# Altium footprint library PcbLib.PcbLib: 6 footprints
Each footprint in its own frame and in the unit in brackets; x right, y up, seen from the top. Pads: shape width x height; smd on the part's side, far side on the other; paste and mask are expansions set on the pad; w line width, h text height; cw(c..) or ccw(c..) is an arc to the next point about the centre after c.
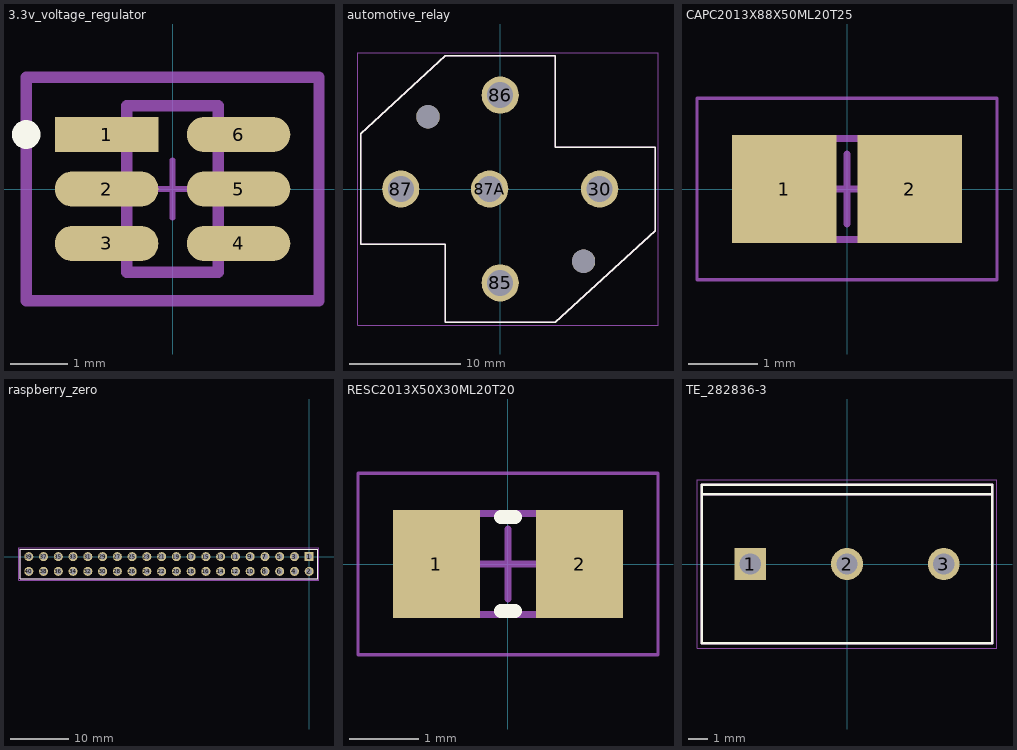
[diagram p0: the footprints below, top view; thin cyan lines are the x and y axes]

## 3.3v_voltage_regulator [mm]
height 1.1
pads (6):
  rect 1.805x0.618 smd paste+0 mask+0: 1(-1.15,0.95)
  rrect100% 1.805x0.618 smd paste+0 mask+0: 2(-1.15,0) 3(-1.15,-0.95) 4(1.15,-0.95) 5(1.15,0) 6(1.15,0.95)
Top Overlay:
  circle w0.25: c-2.553,0.95 r0.125
Top Assembly:
  lines w0.2: -2.553,-1.95 2.553,-1.95 2.553,1.95 -2.553,1.95 -2.553,-1.95
  text ".Designator" at 0,0.188 h1
Top 3D Body:
  lines w0.2: -0.8,-1.45 0.8,-1.45 0.8,1.45 -0.8,1.45 -0.8,-1.45
Top Component Center:
  lines w0.1: -0.5,0 0.5,0 ; 0,-0.5 0,0.5
3D body "IC_Microchip_MCP1501T-30E-CHY_eec.STEP": height 1.45, standoff 0, extent -1.4,-1.45 1.4,1.45

## automotive_relay [mm]
pads (7):
  round 3.353 hole 2.337: 30(8.95,0) 85(0,-8.45) 86(0,8.45) 87(-8.95,0) 87A(-0.95,0)
  round 2.1 hole 2.1 unplated: ""(-6.5,6.5) ""(7.5,-6.5)
Top Overlay:
  lines w0.127: -12.55,-4.95 -4.95,-4.95 -4.95,-12 4.95,-12 13.95,-3.75 13.95,3.75 4.95,3.75 4.95,12 -4.95,12 -12.55,4.95 -12.55,-4.95
Top 3D Body:
  lines w0.127: -12.55,-4.95 -4.95,-4.95 -4.95,-12 4.95,-12 13.95,-3.75 13.95,3.75 4.95,3.75 4.95,12 -4.95,12 -12.55,4.95 -12.55,-4.95
Top Courtyard:
  lines w0.05: -12.8,-12.25 14.2,-12.25 14.2,12.25 -12.8,12.25 -12.8,-12.25
3D body "c-1393310-3-b-3d.stp": height 13.5, standoff -6.95, extent -12.59,-12 13.902,12
3D body "Relay_TE_Connectivity_1432785-1_eec.STEP": height 39.5, standoff 3.5, extent -11.75,-13.25 14.75,13.25

## CAPC2013X88X50ML20T25 [mm] "Chip Capacitor, 2-Leads, Body 2.00x1.25mm, IPC Low Density"
height 0.88
pads (2):
  rect 1.5x1.55 smd: 1(-0.9,0) 2(0.9,0)
Top 3D Body:
  lines w0.1: -1.1,-0.725 -1.1,0.725 1.1,0.725 1.1,-0.725 -1.1,-0.725
Top Courtyard:
  lines w0.05: -2.15,-1.3 -2.15,1.3 2.15,1.3 2.15,-1.3 -2.15,-1.3
  lines w0.1: -0.5,0 0.5,0 ; 0,-0.5 0,0.5
3D body: height 0.88, standoff 0, extent -0.6,-0.725 0.6,0.725
3D body: height 0.88, standoff 0, extent -1.1,-0.725 -0.6,0.725
3D body: height 0.88, standoff 0, extent 0.6,-0.725 1.1,0.725

## raspberry_zero [mm]
pads (40):
  rect 1.55x1.55 hole 1.02: 1(0,0)
  round 1.55 hole 1.02: 2(0,-2.54) 3(-2.54,0) 4(-2.54,-2.54) 5(-5.08,0) 6(-5.08,-2.54) 7(-7.62,0) 8(-7.62,-2.54) 9(-10.16,0) 10(-10.16,-2.54) 11(-12.7,0) 12(-12.7,-2.54) 13(-15.24,0) 14(-15.24,-2.54) 15(-17.78,0) 16(-17.78,-2.54) 17(-20.32,0) 18(-20.32,-2.54) 19(-22.86,0) 20(-22.86,-2.54) 21(-25.4,0) 22(-25.4,-2.54) 23(-27.94,0) 24(-27.94,-2.54) 25(-30.48,0) 26(-30.48,-2.54) 27(-33.02,0) 28(-33.02,-2.54) 29(-35.56,0) 30(-35.56,-2.54) 31(-38.1,0) 32(-38.1,-2.54) 33(-40.64,0) 34(-40.64,-2.54) 35(-43.18,0) 36(-43.18,-2.54) 37(-45.72,0) 38(-45.72,-2.54) 39(-48.26,0) 40(-48.26,-2.54)
Top Overlay:
  lines w0.2: -49.72,-3.81 -49.72,1.27 1.46,1.27 1.46,-3.81 -49.72,-3.81
Top 3D Body:
  lines w0.1: -49.72,-3.81 -49.72,1.27 1.46,1.27 1.46,-3.81 -49.72,-3.81
Top Courtyard:
  lines w0.05: -49.945,-4.035 -49.945,1.495 1.685,1.495 1.685,-4.035 -49.945,-4.035
3D body "RaspberryPiZeroW.SLDPRT": height -3.2, standoff -8, extent -56.63,-29.204 9.27,2.046
3D body "TSW-120-24-X-D.step": height 2.42, standoff -9.77, extent -49.53,-3.81 1.27,1.27

## RESC2013X50X30ML20T20 [mm] "Chip Resistor, 2-Leads, Body 2.00x1.25mm, IPC Low Density"
height 0.5
pads (2):
  rect 1.25x1.55 smd: 1(-1.025,0) 2(1.025,0)
Top Overlay:
  lines w0.2: -0.1,-0.675 0.1,-0.675 ; -0.1,0.675 0.1,0.675
Top 3D Body:
  lines w0.1: -1.1,-0.725 -1.1,0.725 1.1,0.725 1.1,-0.725 -1.1,-0.725
Top Courtyard:
  lines w0.05: -2.15,-1.3 -2.15,1.3 2.15,1.3 2.15,-1.3 -2.15,-1.3
  lines w0.1: -0.5,0 0.5,0 ; 0,-0.5 0,0.5
3D body: height 0.5, standoff 0, extent -0.8,-0.725 0.8,0.725
3D body: height 0.5, standoff 0, extent -1.1,-0.725 -0.8,0.725
3D body: height 0.5, standoff 0, extent 0.8,-0.725 1.1,0.725

## TE_282836-3 [mm]
pads (3):
  rect 1.65x1.65 hole 1.1: 1(-5,0)
  round 1.65 hole 1.1: 2(0,0) 3(5,0)
Top Overlay:
  lines w0.127: -7.5,3.6 7.5,3.6 ; 7.5,3.6 7.5,-4.1 -7.5,-4.1 -7.5,4.1 7.5,4.1 7.5,3.6
Top 3D Body:
  lines w0.127: -7.5,3.6 7.5,3.6 ; 7.5,3.6 7.5,-4.1 -7.5,-4.1 -7.5,4.1 7.5,4.1 7.5,3.6
Top Courtyard:
  lines w0.05: -7.75,-4.35 -7.75,4.35 7.75,4.35 7.75,-4.35 -7.75,-4.35
3D body "step_temp.STEP": height 10, standoff -3.5, extent -8.1,-4 7.5,4.2